# Altium footprint library SO-16_DOUBLEPIN.PcbLib: 1 footprints
Each footprint in its own frame and in the unit in brackets; x right, y up, seen from the top. Pads: shape width x height; smd on the part's side, far side on the other; paste and mask are expansions set on the pad; w line width, h text height; cw(c..) or ccw(c..) is an arc to the next point about the centre after c.
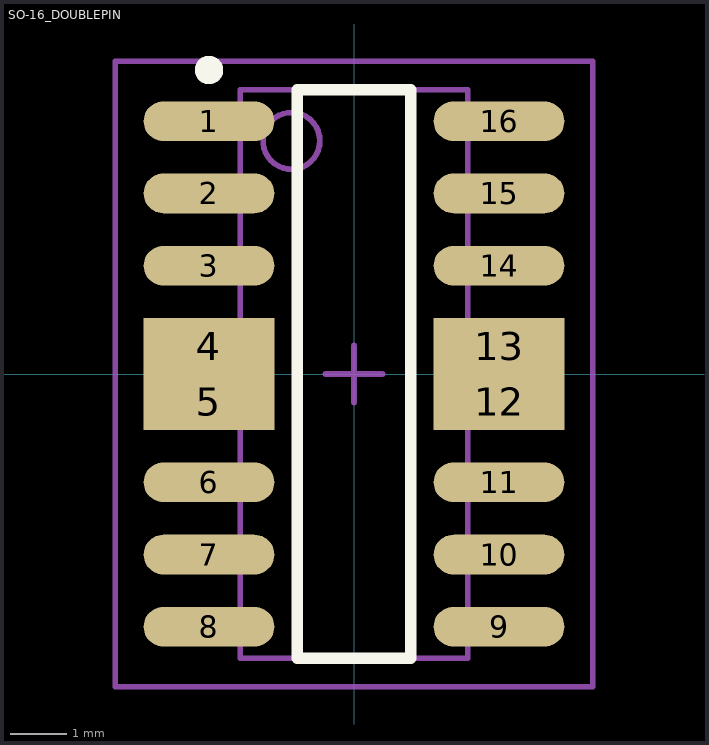
[diagram p0: the footprint, top view; thin cyan lines are the x and y axes]

## SO-16_DOUBLEPIN [mm] "16-Pin Small Outline Integrated Circuit 1.27 mm Pitch"
height 1.5
pads (16):
  oval 2.3x0.7 smd: 1(-2.55,4.445) 2(-2.55,3.175) 3(-2.55,1.905) 6(-2.55,-1.905) 7(-2.55,-3.175) 8(-2.55,-4.445) 9(2.55,-4.445) 10(2.55,-3.175) 11(2.55,-1.905) 14(2.55,1.905) 15(2.55,3.175) 16(2.55,4.445)
  rect 2.3x0.99 smd: 4(-2.55,0.49) 5(-2.55,-0.49) 12(2.55,-0.49) 13(2.55,0.49)
Top Overlay:
  circle w0.25: c-2.55,5.345 r0.125
  lines w0.2: -1,-5 1,-5 1,5 -1,5 -1,-5
Mechanical 13:
  circle w0.1: c-1.1,4.1 r0.5
  lines w0.1: -2,-5 2,-5 2,5 -2,5 -2,-5
Mechanical 15:
  lines w0.1: -0.5,0 0.5,0 ; 0,-0.5 0,0.5 ; -4.2,-5.5 4.2,-5.5 4.2,5.5 -4.2,5.5 -4.2,-5.5
3D body: height 1.5, standoff 0, extent -2,-5 2,5